# EAGLE library part RM024 (library custom-devices)
Laird Wireless RM024 Series 2.4GHz Range-Amplified MultiPoint Modules
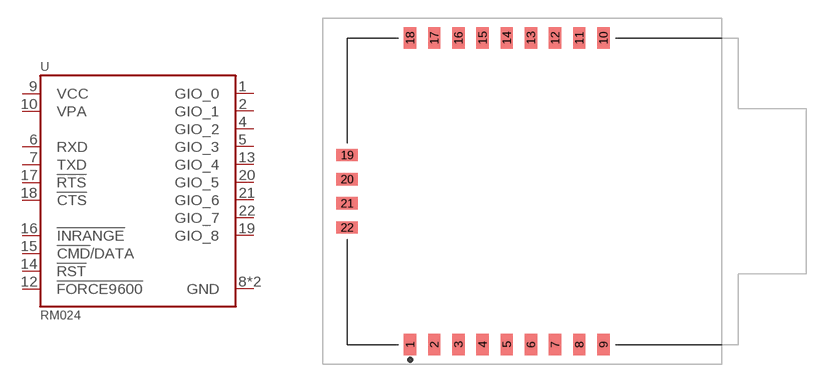
[diagram p1: symbol with the pads of RM024+ANT; footprint RM024+ANT]

Designator prefix U

## RM024_SMT+ANT (DIGI-KEY: RM024-S10-M-20-ND; MOUSER: 814-RM024-S10-M)  [RM024+ANT]
1  GIO_0
2  GIO_1
4  GIO_2
5  GIO_3
6  RXD
7  TXD
8  GND
9  VCC
10  VPA
11  GND
12  !FORCE9600
13  GIO_4
14  !RST
15  !CMD!/DATA
16  !INRANGE
17  !RTS
18  !CTS
19  GIO_8
20  GIO_5
21  GIO_6
22  GIO_7

## Footprint RM024+ANT (pad centres in mm)
smd 1.02 x 1.78: 1 5.21,-12.7; 2 7.21,-12.7; 3 9.21,-12.7; 4 11.21,-12.7; 5 13.21,-12.7; 6 15.21,-12.7; 7 17.21,-12.7; 8 19.21,-12.7; 9 21.21,-12.7; 10 21.21,12.7; 11 19.21,12.7; 12 17.21,12.7; 13 15.21,12.7; 14 13.21,12.7; 15 11.21,12.7; 16 9.21,12.7; 17 7.21,12.7; 18 5.21,12.7
smd 1.78 x 1.02: 19 0,3; 20 0,1; 21 0,-1; 22 0,-3